# Altium footprint library con-yamaichi.PCBLIB: 44 footprints (part 1 of 3)
Each footprint in its own frame and in the unit in brackets; x right, y up, seen from the top. Pads: shape width x height; smd on the part's side, far side on the other; paste and mask are expansions set on the pad; w line width, h text height; cw(c..) or ccw(c..) is an arc to the next point about the centre after c.
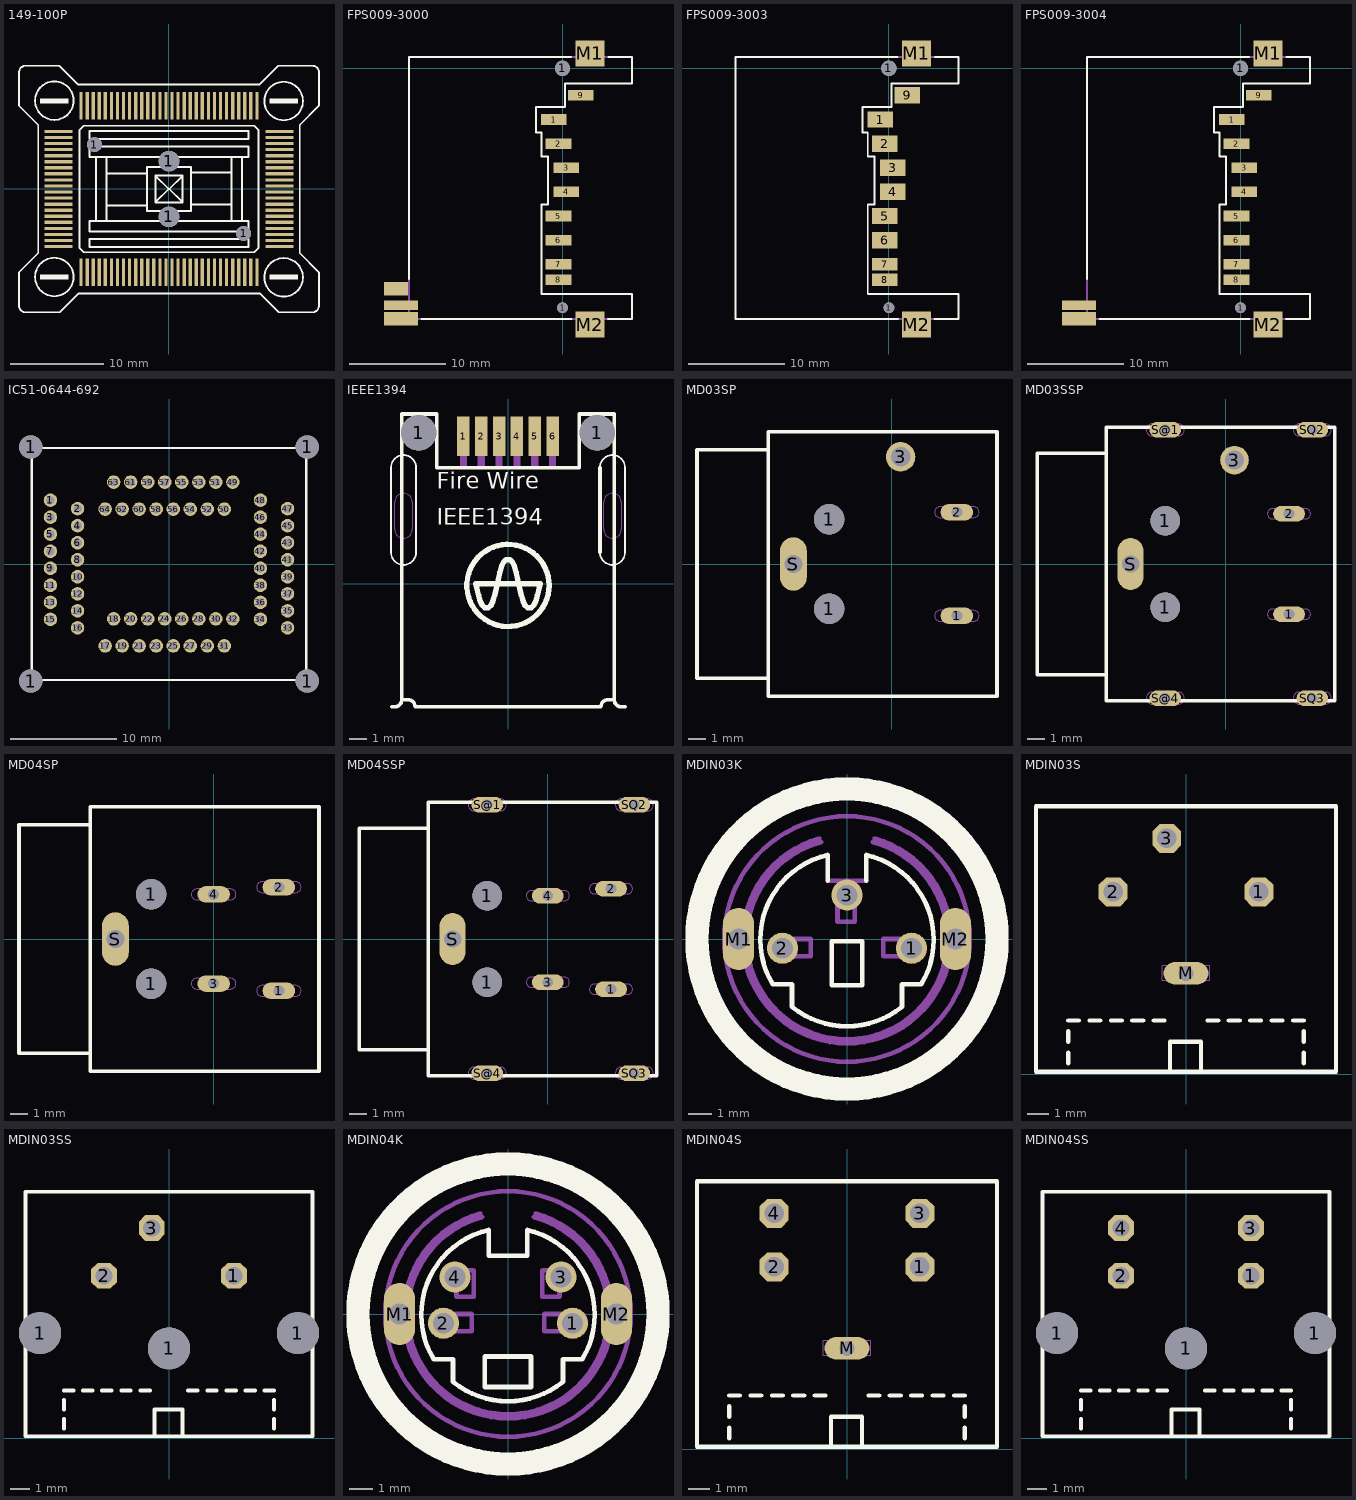
[diagram p0: the footprints below, top view; thin cyan lines are the x and y axes]

## 149-100P [mm]
pads (104):
  rect 0.35x3 smd: 1(-9.425,-8.925) 2(-8.775,-8.925) 3(-8.125,-8.925) 4(-7.475,-8.925) 5(-6.825,-8.925) 6(-6.175,-8.925) 7(-5.525,-8.925) 8(-4.875,-8.925) 9(-4.225,-8.925) 10(-3.575,-8.925) 11(-2.925,-8.925) 12(-2.275,-8.925) 13(-1.625,-8.925) 14(-0.975,-8.925) 15(-0.325,-8.925) 16(0.325,-8.925) 17(0.975,-8.925) 18(1.625,-8.925) 19(2.275,-8.925) 20(2.925,-8.925) 21(3.575,-8.925) 22(4.225,-8.925) 23(4.875,-8.925) 24(5.525,-8.925) 25(6.175,-8.925) 26(6.825,-8.925) 27(7.475,-8.925) 28(8.125,-8.925) 29(8.775,-8.925) 30(9.425,-8.925) 51(9.425,8.925) 52(8.775,8.925) 53(8.125,8.925) 54(7.475,8.925) 55(6.825,8.925) 56(6.175,8.925) 57(5.525,8.925) 58(4.875,8.925) 59(4.225,8.925) 60(3.575,8.925) 61(2.925,8.925) 62(2.275,8.925) 63(1.625,8.925) 64(0.975,8.925) 65(0.325,8.925) 66(-0.325,8.925) 67(-0.975,8.925) 68(-1.625,8.925) 69(-2.275,8.925) 70(-2.925,8.925) 71(-3.575,8.925) 72(-4.225,8.925) 73(-4.875,8.925) 74(-5.525,8.925) 75(-6.175,8.925) 76(-6.825,8.925) 77(-7.475,8.925) 78(-8.125,8.925) 79(-8.775,8.925) 80(-9.425,8.925)
  round 1.6 hole 1.6: 1(-8,4.75) 1(8,-4.75)
  round 2.2 hole 2.2: 1(0,-3) 1(0,3)
  rect 3x0.35 smd: 31(11.85,-6.175) 32(11.85,-5.525) 33(11.85,-4.875) 34(11.85,-4.225) 35(11.85,-3.575) 36(11.85,-2.925) 37(11.85,-2.275) 38(11.85,-1.625) 39(11.85,-0.975) 40(11.85,-0.325) 41(11.85,0.325) 42(11.85,0.975) 43(11.85,1.625) 44(11.85,2.275) 45(11.85,2.925) 46(11.85,3.575) 47(11.85,4.225) 48(11.85,4.875) 49(11.85,5.525) 50(11.85,6.175) 81(-11.85,6.175) 82(-11.85,5.525) 83(-11.85,4.875) 84(-11.85,4.225) 85(-11.85,3.575) 86(-11.85,2.925) 87(-11.85,2.275) 88(-11.85,1.625) 89(-11.85,0.975) 90(-11.85,0.325) 91(-11.85,-0.325) 92(-11.85,-0.975) 93(-11.85,-1.625) 94(-11.85,-2.275) 95(-11.85,-2.925) 96(-11.85,-3.575) 97(-11.85,-4.225) 98(-11.85,-4.875) 99(-11.85,-5.525) 100(-11.85,-6.175)
Top Overlay:
  circle w0.203: c-12.293,9.472 r2.063
  circle w0.203: c-12.293,-9.431 r2.063
  circle w0.203: c12.293,-9.472 r2.063
  circle w0.203: c12.293,9.431 r2.063
  rectangle: -13.809,9.178 -10.778,9.725
  rectangle: -13.809,-9.725 -10.778,-9.178
  rectangle: 10.778,-9.725 13.809,-9.178
  rectangle: 10.778,9.178 13.809,9.725
  lines w0.203: -15.367,-13.219 -11.704,-13.219 -9.683,-11.199 9.725,-11.199 11.746,-13.219 15.367,-13.219 ccw(c15.367,-12.503) 16.083,-12.503 ; -15.367,13.219 -11.746,13.219 -9.725,11.199 9.683,11.199 11.704,13.219 15.367,13.219 cw(c15.367,12.503) 16.083,12.503 ; -15.366,-13.22 cw(c-15.366,-12.504) -16.082,-12.504 -16.082,-8.925 -14.019,-6.862 -14.019,6.862 -16.082,8.925 -16.082,12.504 cw(c-15.366,12.504) -15.366,13.22 ; -7.831,-3.284 -7.831,3.284 ; -6.694,-3.284 -6.694,3.284 ; -6.61,1.642 -2.442,1.642 ; -6.568,-1.768 -2.484,-1.768 ; -1.347,-1.305 -0.042,0 -1.347,1.305 ; -0.042,4.547 -8.504,4.547 -8.504,3.41 8.504,3.41 8.504,4.547 0,4.547 ; 0,-4.547 -8.504,-4.547 -8.504,-3.41 8.504,-3.41 8.504,-4.547 0.042,-4.547 ; 1.347,-1.305 0.042,0 1.347,1.305 ; 2.442,-1.642 6.61,-1.642 ; 2.484,1.768 6.568,1.768 ; 6.694,-3.284 6.694,3.284 ; 7.831,-3.284 7.831,3.284 ; 16.082,-12.504 16.082,-8.925 14.019,-6.862 14.019,6.862 16.082,8.925 16.082,12.504 ; -9.599,-6.315 -9.599,6.315 -9.136,6.778 9.136,6.778 9.599,6.315 9.599,-6.315 9.136,-6.778 -9.136,-6.778 -9.599,-6.315 ; -8.504,-6.231 -8.504,-5.347 8.504,-5.347 8.504,-6.231 -8.504,-6.231 ; -8.504,5.347 -8.504,6.231 8.504,6.231 8.504,5.347 -8.504,5.347 ; -2.358,-2.358 -2.358,2.358 2.358,2.358 2.358,-2.358 -2.358,-2.358 ; -1.431,-1.431 -1.431,1.431 1.431,1.431 1.431,-1.431 -1.431,-1.431
Mechanical 13:
  text "YAMAICHI  149-100 *14 #5" at 0,11.43 h0.63
Mechanical 14:
  text "IC149-100-14-#5" at -3.81,0 h0.94

## FPS009-3000 [mm]
pads (16):
  rect 2.65x1.1 smd: 1(-0.915,-5.3) 2(-0.415,-7.8) 3(0.385,-10.3) 4(0.385,-12.8) 5(-0.415,-15.3) 6(-0.415,-17.8) 7(-0.415,-20.3) 8(-0.415,-21.925) 9(1.885,-2.8)
  round 1.1 hole 1.1: 1(0,-24.8)
  round 1.6 hole 1.6: 1(0,0)
  rect 3.5x1 smd: COM_TERM(-16.75,-24.55)
  rect 2.5x1.4 smd: DETECT(-17.25,-22.85)
  rect 3x2.7 smd: M1(2.85,1.55) M2(2.85,-26.55)
  rect 3.5x1.4 smd: WRITE_PROT(-16.75,-25.95)
Top Overlay:
  lines w0.203: -15.9,-21.85 -15.9,1.2 0.9,1.2 ; -14.6,-26 0.95,-26 ; 4.7,-26 7.2,-26 7.2,-23.4 -2.2,-23.4 -2.2,-14.1 -1.5,-14.1 -1.5,-9.15 -2.2,-9.15 -2.2,-6.65 -2.75,-6.65 -2.75,-4 0.25,-4 0.25,-1.55 7.2,-1.55 7.2,1.2 4.75,1.2
Mechanical 16:
  lines w0.203: -15.9,-21.85 -15.9,-26 -14.6,-26 ; 0.9,1.2 4.75,1.2 ; 0.95,-26 4.7,-26

## FPS009-3003 [mm]
pads (13):
  rect 2.65x1.7 smd: 1(-0.915,-5.3) 2(-0.415,-7.8) 3(0.385,-10.3) 4(0.385,-12.8) 5(-0.415,-15.3) 6(-0.415,-17.8) 9(1.885,-2.8)
  round 1.1 hole 1.1: 1(0,-24.8)
  round 1.6 hole 1.6: 1(0,0)
  rect 2.65x1.3 smd: 7(-0.415,-20.3) 8(-0.415,-21.925)
  rect 3x2.7 smd: M1(2.85,1.55) M2(2.85,-26.55)
Top Overlay:
  lines w0.203: 0.9,1.2 -15.9,1.2 -15.9,-26 0.95,-26 ; 4.7,-26 7.2,-26 7.2,-23.4 -2.2,-23.4 -2.2,-14.1 -1.5,-14.1 -1.5,-9.15 -2.2,-9.15 -2.2,-6.65 -2.75,-6.65 -2.75,-4 0.25,-4 0.25,-1.55 7.2,-1.55 7.2,1.2 4.75,1.2
Mechanical 16:
  lines w0.203: 0.9,1.2 4.75,1.2 ; 0.95,-26 4.7,-26

## FPS009-3004 [mm]
pads (15):
  rect 2.65x1.1 smd: 1(-0.915,-5.3) 2(-0.415,-7.8) 3(0.385,-10.3) 4(0.385,-12.8) 5(-0.415,-15.3) 6(-0.415,-17.8) 7(-0.415,-20.3) 8(-0.415,-21.925) 9(1.885,-2.8)
  round 1.1 hole 1.1: 1(0,-24.8)
  round 1.6 hole 1.6: 1(0,0)
  rect 3.5x1 smd: COM_TERM(-16.75,-24.55)
  rect 3x2.7 smd: M1(2.85,1.55) M2(2.85,-26.55)
  rect 3.5x1.4 smd: WRITE_PROT(-16.75,-25.95)
Top Overlay:
  lines w0.203: -15.9,-21.85 -15.9,1.2 0.9,1.2 ; -14.6,-26 0.95,-26 ; 4.7,-26 7.2,-26 7.2,-23.4 -2.2,-23.4 -2.2,-14.1 -1.5,-14.1 -1.5,-9.15 -2.2,-9.15 -2.2,-6.65 -2.75,-6.65 -2.75,-4 0.25,-4 0.25,-1.55 7.2,-1.55 7.2,1.2 4.75,1.2
Mechanical 16:
  lines w0.203: -15.9,-21.85 -15.9,-26 -14.6,-26 ; 0.9,1.2 4.75,1.2 ; 0.95,-26 4.7,-26

## IC51-0644-692 [mil]
pads (68):
  round 86.61 hole 86.61: 1(-511.81,-433.07) 1(-511.81,433.07) 1(511.81,-433.07) 1(511.81,433.07)
  round 50 hole 31.5: 1(-438.58,236.22) 2(-338.58,204.72) 3(-438.58,173.23) 4(-338.58,141.73) 5(-438.58,110.24) 6(-338.58,78.74) 7(-438.58,47.24) 8(-338.58,15.75) 9(-438.58,-15.75) 10(-338.58,-47.24) 11(-438.58,-78.74) 12(-338.58,-110.24) 13(-438.58,-141.73) 14(-338.58,-173.23) 15(-438.58,-204.72) 16(-338.58,-236.22) 17(-236.22,-303.15) 18(-204.72,-203.15) 19(-173.23,-303.15) 20(-141.73,-203.15) 21(-110.24,-303.15) 22(-78.74,-203.15) 23(-47.24,-303.15) 24(-15.75,-203.15) 25(15.75,-303.15) 26(47.24,-203.15) 27(78.74,-303.15) 28(110.24,-203.15) 29(141.73,-303.15) 30(173.23,-203.15) 31(204.72,-303.15) 32(236.22,-203.15) 33(438.58,-236.22) 34(338.58,-204.72) 35(438.58,-173.23) 36(338.58,-141.73) 37(438.58,-110.24) 38(338.58,-78.74) 39(438.58,-47.24) 40(338.58,-15.75) 41(438.58,15.75) 42(338.58,47.24) 43(438.58,78.74) 44(338.58,110.24) 45(438.58,141.73) 46(338.58,173.23) 47(438.58,204.72) 48(338.58,236.22) 49(236.22,303.15) 50(204.72,203.15) 51(173.23,303.15) 52(141.73,203.15) 53(110.24,303.15) 54(78.74,203.15) 55(47.24,303.15) 56(15.75,203.15) 57(-15.75,303.15) 58(-47.24,203.15) 59(-78.74,303.15) 60(-110.24,203.15) 61(-141.73,303.15) 62(-173.23,203.15) 63(-204.72,303.15) 64(-236.22,203.15)
Top Overlay:
  lines w8: -507.87,-429.13 507.87,-429.13 507.87,429.13 -507.87,429.13 -507.87,-429.13

## IEEE1394 [mm]
pads (8):
  round 2 hole 2: 1(-5,8.45) 1(5,8.45)
  rect 0.7x2.2 smd: 1(-2.5,8.25) 2(-1.5,8.25) 3(-0.5,8.25) 4(0.5,8.25) 5(1.5,8.25) 6(2.5,8.25)
Top Overlay:
  circle w0.305: c0,-0.1 r2.302
  lines w0.102: 5.15,1.75 ccw(c5.85,1.75) 6.55,1.75 6.55,6.5 ccw(c5.85,6.5) 5.15,6.5 ; -6.55,1.75 ccw(c-5.85,1.75) -5.15,1.75 -5.15,6.5 ccw(c-5.85,6.5) -6.55,6.5 -6.55,1.75
  lines w0.203: -6.5,-6.9 -6.35,-6.9 ccw(c-6.35,-6.5) -5.95,-6.5 ; 5.15,1.75 5.15,6.5 ; 6.35,-6.9 cw(c6.35,-6.5) 5.95,-6.5 ; 6.4,-6.9 6.55,-6.9 ; -5.95,-6.5 -5.95,9.5 -4,9.5 -4,6.5 4,6.5 4,9.5 5.95,9.5 5.95,-6.5 ; -5.95,-6.5 -5.6,-6.5 cw(c-5.6,-6.9) -5.2,-6.9 5.2,-6.9 cw(c5.6,-6.9) 5.6,-6.5 5.95,-6.5
  lines w0.305: -1.8,0 -1.65,-0.65 -1.55,-1 -1.45,-1.2 -1.3,-1.35 -1.1,-1.35 -0.95,-1.2 -0.85,-1 -0.75,-0.65 -0.45,0.65 -0.35,1 -0.25,1.2 -0.1,1.35 0.1,1.35 0.25,1.2 0.35,1 0.45,0.65 0.75,-0.65 0.85,-1 0.95,-1.2 1.1,-1.35 1.3,-1.35 1.45,-1.2 1.55,-1 1.65,-0.65 1.8,0 ; -1.75,0 1.75,0
  text "Fire Wire" at -4,5 h1.57
  text "IEEE1394" at -4,3 h1.57
Mechanical 11:
  lines w0: -6.35,3.05 ccw(c-5.85,3.05) -5.35,3.05 -5.35,4.55 ccw(c-5.85,4.55) -6.35,4.55 -6.35,3.05 ; 5.35,3.05 ccw(c5.85,3.05) 6.35,3.05 6.35,4.55 ccw(c5.85,4.55) 5.35,4.55 5.35,3.05
Mechanical 16:
  rectangle: -2.7,6.5 -2.3,9.2
  rectangle: -1.7,6.5 -1.3,9.2
  rectangle: -0.7,6.5 -0.3,9.2
  rectangle: 0.3,6.5 0.7,9.2
  rectangle: 1.3,6.5 1.7,9.2
  rectangle: 2.3,6.5 2.7,9.2

## MD03SP [mil]
pads (6):
  round 66.93 hole 66.93: 1(-137.8,-98.43) 1(-137.8,98.43)
  oval 72x36 hole 24: 1(143.7,-114.17) 2(143.7,114.17)
  round 64.97 hole 43.31: 3(19.69,236.22)
  oval 59.05x118.11 hole 39.37: S(-216.54,0)
Top Overlay:
  lines w8: -271.65,-251.97 -271.65,-291.34 232.28,-291.34 232.28,291.34 -271.65,291.34 -271.65,251.97 ; -271.65,-251.97 -429.13,-251.97 -429.13,251.97 -271.65,251.97 ; -271.65,-251.97 -271.65,251.97
Mechanical 11:
  lines w0: -236.22,-23.62 ccw(c-216.53,-23.62) -196.85,-23.62 -196.85,21.65 ; -236.22,-21.65 -236.22,23.62 cw(c-216.53,23.62) -196.85,23.62 ; 106.3,-125.98 cw(c106.3,-114.17) 106.3,-102.36 181.1,-102.36 cw(c181.1,-114.17) 181.1,-125.98 106.3,-125.98 ; 106.3,102.36 cw(c106.3,114.17) 106.3,125.98 181.1,125.98 cw(c181.1,114.17) 181.1,102.36 106.3,102.36

## MD03SSP [mil]
pads (10):
  round 66.93 hole 66.93: 1(-137.8,-98.43) 1(-137.8,98.43)
  oval 72x36 hole 24: 1(143.7,-114.17) 2(143.7,114.17) S@1(-137.8,305.12) S@4(-137.8,-305.12) SQ2(196.85,305.12) SQ3(196.85,-305.12)
  round 64.97 hole 43.31: 3(19.69,236.22)
  oval 59.05x118.11 hole 39.37: S(-216.54,0)
Top Overlay:
  lines w8: -271.65,-251.97 -271.65,-311.02 248.03,-311.02 248.03,311.02 -271.65,311.02 -271.65,251.97 ; -271.65,-251.97 -429.13,-251.97 -429.13,251.97 -271.65,251.97 ; -271.65,-251.97 -271.65,251.97
Mechanical 11:
  lines w0: -236.22,-23.62 ccw(c-216.53,-23.62) -196.85,-23.62 -196.85,21.65 ; -236.22,-21.65 -236.22,23.62 cw(c-216.53,23.62) -196.85,23.62 ; -108.27,-291.34 cw(c-108.27,-305.12) -108.27,-318.9 -167.32,-318.9 cw(c-167.32,-305.12) -167.32,-291.34 -106.3,-291.34 ; -108.27,318.9 cw(c-108.27,305.12) -108.27,291.34 -167.32,291.34 cw(c-167.32,305.12) -167.32,318.9 -106.3,318.9 ; 226.38,-291.34 cw(c226.38,-305.12) 226.38,-318.9 167.32,-318.9 cw(c167.32,-305.12) 167.32,-291.34 228.35,-291.34 ; 226.38,318.9 cw(c226.38,305.12) 226.38,291.34 167.32,291.34 cw(c167.32,305.12) 167.32,318.9 228.35,318.9 ; 106.3,-125.98 cw(c106.3,-114.17) 106.3,-102.36 181.1,-102.36 cw(c181.1,-114.17) 181.1,-125.98 106.3,-125.98 ; 106.3,102.36 cw(c106.3,114.17) 106.3,125.98 181.1,125.98 cw(c181.1,114.17) 181.1,102.36 106.3,102.36

## MD04SP [mil]
pads (7):
  round 66.93 hole 66.93: 1(-137.8,-98.43) 1(-137.8,98.43)
  oval 72x36 hole 24: 1(143.7,-114.17) 2(143.7,114.17) 3(0,-98.43) 4(0,98.43)
  oval 59.05x118.11 hole 39.37: S(-216.54,0)
Top Overlay:
  lines w8: -271.65,-251.97 -271.65,-291.34 232.28,-291.34 232.28,291.34 -271.65,291.34 -271.65,251.97 ; -271.65,-251.97 -429.13,-251.97 -429.13,251.97 -271.65,251.97 ; -271.65,-251.97 -271.65,251.97
Mechanical 11:
  lines w0: -236.22,-23.62 ccw(c-216.53,-23.62) -196.85,-23.62 -196.85,21.65 ; -236.22,-21.65 -236.22,23.62 cw(c-216.53,23.62) -196.85,23.62 ; -37.4,-110.24 cw(c-37.4,-98.42) -37.4,-86.61 37.4,-86.61 cw(c37.4,-98.42) 37.4,-110.24 -37.4,-110.24 ; -37.4,86.61 cw(c-37.4,98.42) -37.4,110.24 37.4,110.24 cw(c37.4,98.42) 37.4,86.61 -37.4,86.61 ; 106.3,-125.98 cw(c106.3,-114.17) 106.3,-102.36 181.1,-102.36 cw(c181.1,-114.17) 181.1,-125.98 106.3,-125.98 ; 106.3,102.36 cw(c106.3,114.17) 106.3,125.98 181.1,125.98 cw(c181.1,114.17) 181.1,102.36 106.3,102.36

## MD04SSP [mil]
pads (11):
  round 66.93 hole 66.93: 1(-137.8,-98.43) 1(-137.8,98.43)
  oval 72x36 hole 24: 1(143.7,-114.17) 2(143.7,114.17) 3(0,-98.43) 4(0,98.43) S@1(-137.8,305.12) S@4(-137.8,-305.12) SQ2(196.85,305.12) SQ3(196.85,-305.12)
  oval 59.05x118.11 hole 39.37: S(-216.54,0)
Top Overlay:
  lines w8: -271.65,-251.97 -271.65,-311.02 248.03,-311.02 248.03,311.02 -271.65,311.02 -271.65,251.97 ; -271.65,-251.97 -429.13,-251.97 -429.13,251.97 -271.65,251.97 ; -271.65,-251.97 -271.65,251.97
Mechanical 11:
  lines w0: -236.22,-23.62 ccw(c-216.53,-23.62) -196.85,-23.62 -196.85,21.65 ; -236.22,-21.65 -236.22,23.62 cw(c-216.53,23.62) -196.85,23.62 ; -108.27,-291.34 cw(c-108.27,-305.12) -108.27,-318.9 -167.32,-318.9 cw(c-167.32,-305.12) -167.32,-291.34 -106.3,-291.34 ; -108.27,318.9 cw(c-108.27,305.12) -108.27,291.34 -167.32,291.34 cw(c-167.32,305.12) -167.32,318.9 -106.3,318.9 ; 226.38,-291.34 cw(c226.38,-305.12) 226.38,-318.9 167.32,-318.9 cw(c167.32,-305.12) 167.32,-291.34 228.35,-291.34 ; 226.38,318.9 cw(c226.38,305.12) 226.38,291.34 167.32,291.34 cw(c167.32,305.12) 167.32,318.9 228.35,318.9 ; -37.4,-110.24 cw(c-37.4,-98.42) -37.4,-86.61 37.4,-86.61 cw(c37.4,-98.42) 37.4,-110.24 -37.4,-110.24 ; -37.4,86.61 cw(c-37.4,98.42) -37.4,110.24 37.4,110.24 cw(c37.4,98.42) 37.4,86.61 -37.4,86.61 ; 106.3,-125.98 cw(c106.3,-114.17) 106.3,-102.36 181.1,-102.36 cw(c181.1,-114.17) 181.1,-125.98 106.3,-125.98 ; 106.3,102.36 cw(c106.3,114.17) 106.3,125.98 181.1,125.98 cw(c181.1,114.17) 181.1,102.36 106.3,102.36

## MDIN03K [mm]
pads (5):
  round 1.35 hole 0.9: 1(2.8,-0.4) 2(-2.8,-0.4) 3(0,1.9)
  oval 1.35x2.7 hole 0.9: M1(-4.7,0) M2(4.7,0)
Top Overlay:
  circle w1.016: c0,0 r6.5
  lines w0.203: -0.84,2.52 -0.84,3.64 ccw(c0,-0.023) -3.22,-1.96 -2.38,-1.96 -2.38,-2.94 ccw(c0,0) 2.38,-2.94 2.38,-1.96 3.22,-1.96 ccw(c0,-0.023) 0.84,3.64 0.84,2.52 ; -0.662,-2 -0.662,-0.098 0.662,-0.098 0.662,-2 -0.662,-2
Mechanical 16:
  circle w0.203: c0,0 r5.32
  lines w0.102: -1.25,4.2 -1.25,4.4 -1.15,4.4 -1.15,4.15 ; 1.15,4.15 1.15,4.4 1.25,4.4 1.25,4.2
  lines w0.203: -1.26,4.34 ccw(c0,0) 1.26,4.34 ; -1.12,4.2 ccw(c0,0) 1.12,4.2 ; -0.84,2.52 0.84,2.52 ; -2.729,-0.744 -1.571,-0.744 -1.571,0 -2.729,0 -2.729,-0.744 ; -0.414,0.744 -0.414,1.902 0.331,1.902 0.331,0.744 -0.414,0.744 ; 1.571,-0.744 2.729,-0.744 2.729,0 1.571,0 1.571,-0.744

## MDIN03S [mm]
pads (4):
  oct 1.35x1.35 hole 0.9: 1(3.4,8.5) 2(-3.4,8.5) 3(-0.9,11)
  oval 2.1x1.05 hole 0.7: M(0,4.7)
Top Overlay:
  lines w0.203: -5.5,0.5 -5.5,1 ; -5.5,1.5 -5.5,2 ; -5.5,2.5 -5,2.5 ; -4.5,2.5 -4,2.5 ; -3.5,2.5 -3,2.5 ; -2.5,2.5 -2,2.5 ; -1.5,2.5 -1,2.5 ; -0.75,0.1 -0.75,1.5 0.7,1.5 0.7,0.1 ; 1,2.5 1.5,2.5 ; 2,2.5 2.5,2.5 ; 3,2.5 3.5,2.5 ; 4,2.5 4.5,2.5 ; 5,2.5 5.5,2.5 ; 5.5,0.5 5.5,1 ; 5.5,1.5 5.5,2 ; -7,0.1 7,0.1 7,12.5 -7,12.5 -7,0.1
Mechanical 11:
  lines w0: -1.1,4.35 1.1,4.35 1.1,5.05 -1.1,5.05 -1.1,4.35

## MDIN03SS [mm]
pads (6):
  round 2.2 hole 2.2: 1(-6.75,5.5) 1(0,4.7) 1(6.75,5.5)
  oct 1.35x1.35 hole 0.9: 1(3.4,8.5) 2(-3.4,8.5) 3(-0.9,11)
Top Overlay:
  lines w0.203: -5.5,0.5 -5.5,1 ; -5.5,1.5 -5.5,2 ; -5.5,2.5 -5,2.5 ; -4.5,2.5 -4,2.5 ; -3.5,2.5 -3,2.5 ; -2.5,2.5 -2,2.5 ; -1.5,2.5 -1,2.5 ; -0.75,0.1 -0.75,1.5 0.7,1.5 0.7,0.1 ; 1,2.5 1.5,2.5 ; 2,2.5 2.5,2.5 ; 3,2.5 3.5,2.5 ; 4,2.5 4.5,2.5 ; 5,2.5 5.5,2.5 ; 5.5,0.5 5.5,1 ; 5.5,1.5 5.5,2 ; -7.5,0.1 7.5,0.1 7.5,12.9 -7.5,12.9 -7.5,0.1

## MDIN04K [mm]
pads (6):
  round 1.35 hole 0.9: 1(2.8,-0.4) 2(-2.8,-0.4) 3(2.3,1.6) 4(-2.3,1.6)
  oval 1.35x2.7 hole 0.9: M1(-4.7,0) M2(4.7,0)
Top Overlay:
  circle w1.016: c0,0 r6.5
  lines w0.203: -3.22,-1.96 -2.38,-1.96 -2.38,-2.94 ccw(c0,0) 2.38,-2.94 2.38,-1.96 3.22,-1.96 ccw(c0,-0.023) 0.84,3.64 0.84,2.52 -0.84,2.52 -0.84,3.64 ccw(c0,-0.023) -3.22,-1.96 ; -1.002,-3.162 1,-3.162 1,-1.838 -1.002,-1.838 -1.002,-3.162
Mechanical 16:
  circle w0.203: c0,0 r5.32
  lines w0.102: -1.25,4.2 -1.25,4.4 -1.15,4.4 -1.15,4.15 ; 1.15,4.15 1.15,4.4 1.25,4.4 1.25,4.2
  lines w0.203: -1.26,4.34 ccw(c0,0) 1.26,4.34 ; -1.12,4.2 ccw(c0,0) 1.12,4.2 ; -2.729,-0.744 -1.571,-0.744 -1.571,0 -2.729,0 -2.729,-0.744 ; -2.233,0.744 -2.233,1.902 -1.489,1.902 -1.489,0.744 -2.233,0.744 ; 1.489,0.744 1.489,1.902 2.233,1.902 2.233,0.744 1.489,0.744 ; 1.571,-0.744 2.729,-0.744 2.729,0 1.571,0 1.571,-0.744

## MDIN04S [mm]
pads (5):
  oct 1.35x1.35 hole 0.9: 1(3.4,8.5) 2(-3.4,8.5) 3(3.4,11) 4(-3.4,11)
  oval 2.1x1.05 hole 0.7: M(0,4.7)
Top Overlay:
  lines w0.203: -5.5,0.5 -5.5,1 ; -5.5,1.5 -5.5,2 ; -5.5,2.5 -5,2.5 ; -4.5,2.5 -4,2.5 ; -3.5,2.5 -3,2.5 ; -2.5,2.5 -2,2.5 ; -1.5,2.5 -1,2.5 ; -0.75,0.1 -0.75,1.5 0.7,1.5 0.7,0.1 ; 1,2.5 1.5,2.5 ; 2,2.5 2.5,2.5 ; 3,2.5 3.5,2.5 ; 4,2.5 4.5,2.5 ; 5,2.5 5.5,2.5 ; 5.5,0.5 5.5,1 ; 5.5,1.5 5.5,2 ; -7,0.1 7,0.1 7,12.5 -7,12.5 -7,0.1
Mechanical 11:
  lines w0: -1.1,4.35 1.1,4.35 1.1,5.05 -1.1,5.05 -1.1,4.35

## MDIN04SS [mm]
pads (7):
  round 2.2 hole 2.2: 1(-6.75,5.5) 1(0,4.7) 1(6.75,5.5)
  oct 1.35x1.35 hole 0.9: 1(3.4,8.5) 2(-3.4,8.5) 3(3.4,11) 4(-3.4,11)
Top Overlay:
  lines w0.203: -5.5,0.5 -5.5,1 ; -5.5,1.5 -5.5,2 ; -5.5,2.5 -5,2.5 ; -4.5,2.5 -4,2.5 ; -3.5,2.5 -3,2.5 ; -2.5,2.5 -2,2.5 ; -1.5,2.5 -1,2.5 ; -0.75,0.1 -0.75,1.5 0.7,1.5 0.7,0.1 ; 1,2.5 1.5,2.5 ; 2,2.5 2.5,2.5 ; 3,2.5 3.5,2.5 ; 4,2.5 4.5,2.5 ; 5,2.5 5.5,2.5 ; 5.5,0.5 5.5,1 ; 5.5,1.5 5.5,2 ; -7.5,0.1 7.5,0.1 7.5,12.9 -7.5,12.9 -7.5,0.1